# Altium footprint library Molex_22_23_2021_0.PcbLib: 1 footprints
Each footprint in its own frame and in the unit in brackets; x right, y up, seen from the top. Pads: shape width x height; smd on the part's side, far side on the other; paste and mask are expansions set on the pad; w line width, h text height; cw(c..) or ccw(c..) is an arc to the next point about the centre after c.
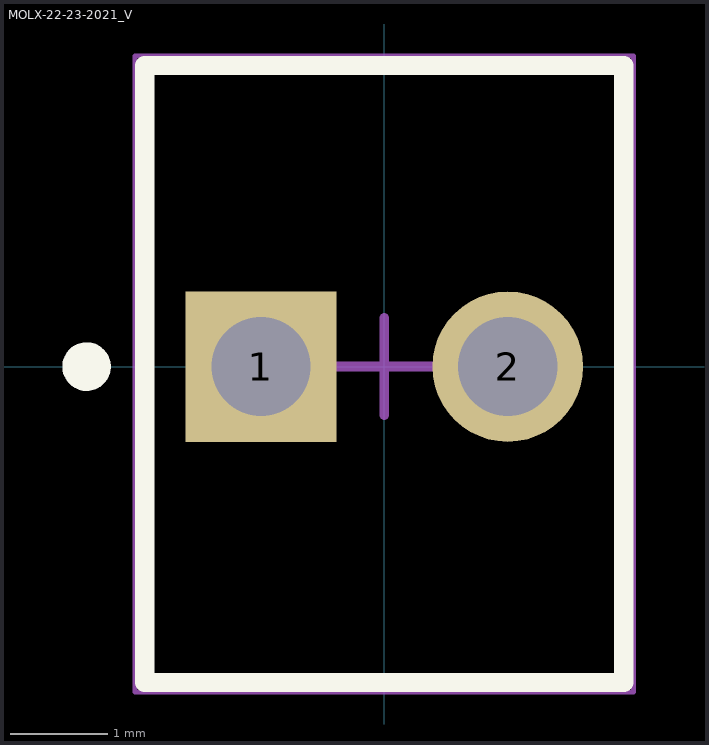
[diagram p0: the footprint, top view; thin cyan lines are the x and y axes]

## MOLX-22-23-2021_V [mm] "THD, 2-Leads, Body 6.35x4.93mm, Pitch 2.54mm"
height 10.67
pads (2):
  rect 1.55x1.55 hole 1.02: 1(-1.27,0)
  round 1.55 hole 1.02: 2(1.27,0)
Top Overlay:
  circle w0.25: c-3.065,0 r0.125
  lines w0.2: -2.465,-3.251 2.465,-3.251 2.465,3.099 -2.465,3.099 -2.465,-3.251
Mechanical 13:
  lines w0.1: -2.465,-3.251 2.465,-3.251 2.465,3.099 -2.465,3.099 -2.465,-3.251
Mechanical 15:
  lines w0.05: -2.565,-3.351 -2.565,3.199 2.565,3.199 2.565,-3.351 -2.565,-3.351
  lines w0.1: -0.5,0 0.5,0 ; 0,-0.5 0,0.5
3D body "022232021.stp": height 10.66, standoff -3.56, extent -2.464,-3.251 2.464,3.099